# Altium schematic symbol library kmilo17pet-LT_ChargePump.SchLib: 599 symbols (part 17 of 29)
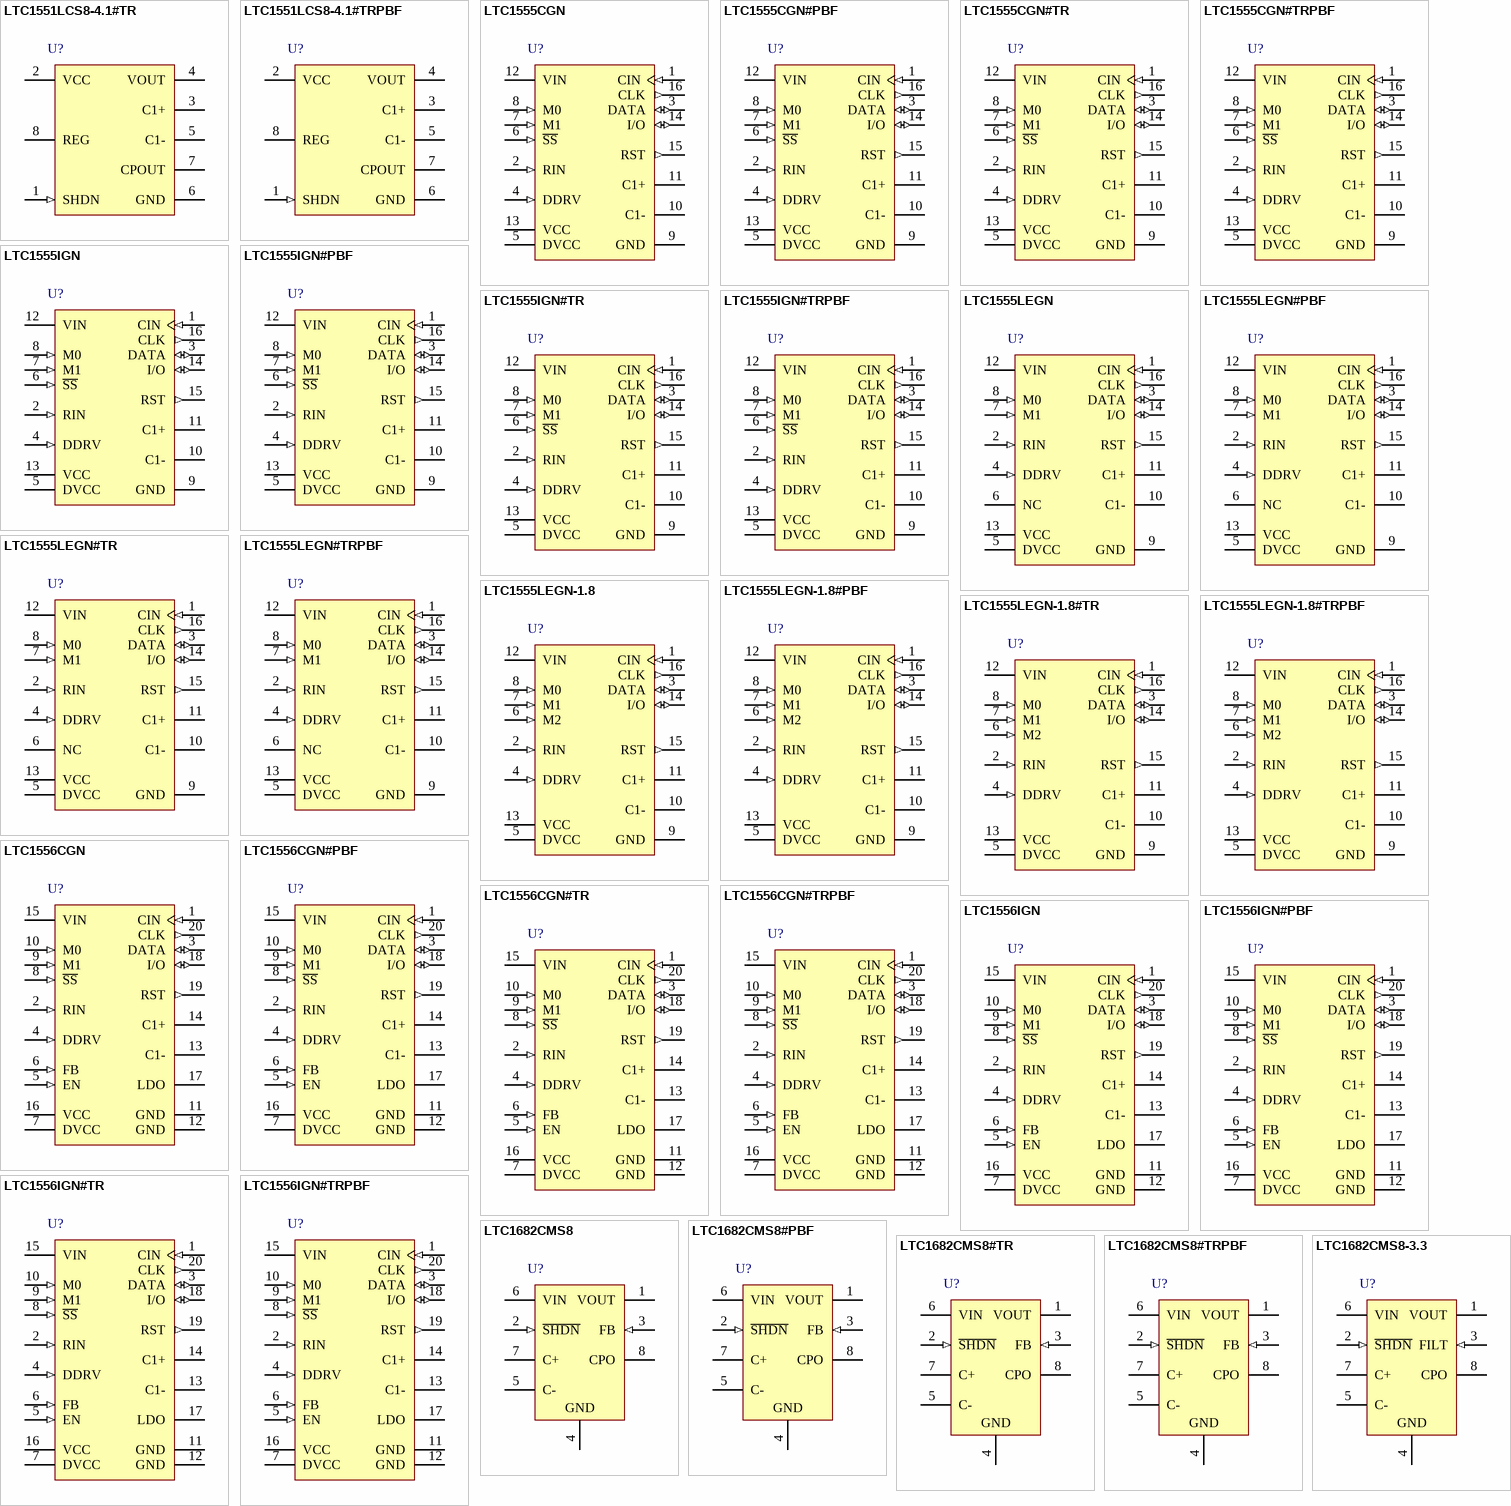
[diagram p32: symbols LTC1551LCS8-4.1#TR to LTC1682CMS8-3.3]

## LTC1556IGN
designator U?
SIM Power Supply and Level Translator, 2.7 to 10 V Vin, 5 V Vout, 20-pin SOP (GN-20), -40 to 85 degC; Manufacturer: Linear Technology; PartNumber: LTC1556IGN; Frequency(kHz): 650; Isupply(mA): 0.06; Max Iout(mA): 20; Vin Max(V): 10; Vin Min(V): 2.7; Voutput: 5V; PackageVersion: Rev. B, 03/2012; PackageReference: GN-20; PackageDescription: 20-Pin Plastic SSOP, Body 8.649 x 3.899 mm, Pitch 0.635 mm; Supplier 1: Digi-Key; Supplier Part Number 1: LTC1556IGN-ND; RoHS: FALSE; Mounting Technology: Surface Mount; ComponentLink1Description: Manufacturer URL; ComponentLink1URL: http://www.linear.com/; ComponentLink2Description: Datasheet; ComponentLink2URL: http://cds.linear.com/docs/en/datasheet/15556f.pdf; ComponentLink3Description: Package Specification; ComponentLink3URL: http://cds.linear.com/docs/en/packaging/05081641_B_GN20.pdf
footprint LT-GN-20_N (SOP, 20-Leads, Body 8.7x4mm, Pitch 0.635mm, IPC Medium Density)
footprint LT-GN-20_L (SOP, 20-Leads, Body 8.7x4mm, Pitch 0.635mm, IPC High Density)
footprint LT-GN-20_M (SOP, 20-Leads, Body 8.7x4mm, Pitch 0.635mm, IPC Low Density)
pins: 1 CIN (in) "Clock Input Pin from Controller.", 2 RIN (in) "Reset Input Pin from Controller.", 3 DATA (io) "Controller Side Data Input/Output Pin. Can be used for single pin bidirectional data transfer between the controller and the SIM card as long as the controller data pin is open drain. The controller output must be able to (See Datasheet)", 4 DDRV (in) "Optional Data Input Pin for Sending Data to the SIM card. When not needed, the DDRV pin should be left floating or tied to DVCC (an internal 1mA current source will pull the DDRV pin up to DVCC if left floating).", 5 EN (in) "Auxiliary LDO/Power Switch Enable Pin. A logic high on this pin from the controller will enable the auxiliary LDO output. When the LDO is disabled, the LDO output will float or be pulled to ground by the load. If left (See Datasheet)", 6 FB (in) "Auxiliary LDO Feedback Pin. When FB is connected to the LDO pin (Pin 17), the LDO output is regulated to 4.3V (typ). If the FB pin is left open or tied to ground, the regulator acts as a =<30W switch between VCC and LDO.", 7 DVCC (power) "Supply Voltage for Controller Side Digital I/O Pins. May be between 1.8V and 5.5V (typically 3V).", 8 ~{SS} (in) "Soft Start Enable Pin. A logic low will enable the charge pump inrush current limiting feature. A logic high will disable the soft start feature and allow VCC to be ramped as quickly as possible upon start-up and coming out (See Datasheet)", 9 M1 (in) "Mode Control Bit 1 (see Truth Table).", 10 M0 (in) "Mode Control Bit 0 (see Truth Table).", 11 GND (power) "Ground for Both the SIM and the Controller. Should be connected to the SIM GND contact as well as to the VIN/Controller GND. Proper grounding and supply bypassing is required to meet 10kV ESD specifications.", 12 GND (power) "Ground for Both the SIM and the Controller. Should be connected to the SIM GND contact as well as to the VIN/Controller GND. Proper grounding and supply bypassing is required to meet 10kV ESD specifications.", 13 C1- "Charge Pump Flying Capacitor Negative Input.", 14 C1+ "Charge Pump Flying Capacitor Positive Input.", 15 VIN (power) "Charge Pump Input Voltage Pin. Input voltage range is 2.7V to 10V. Connect a 10uF low ESR input bypass capacitor close to the VIN pin.", 16 VCC (power) "SIM Card VCC Output. This pin should be connected to the SIM VCC contact. The VCC output voltage is determined by the M0 and M1 pins (see Truth Table). VCC is discharged to GND during shutdown (M0, M1 = 0V). A 10uF low ESR (See Datasheet)", 17 LDO (power) "LDO Output Pin. This pin should be tied to the FB pin for 4.3V LDO operation. The 4.3V LDO output is usable only when VCC is 5V (or greater). It is not available when VCC = 3V. The LDO output may also be used as a =<30W (See Datasheet)", 18 I/O (io) "SIM Side I/O Pin. The pin is an open drain output with a nominal pull-up resistance of 10k and should be connected to the SIM I/O contact. The SIM card must sink up to 1mA max when driving the I/O pin low due to the internal (See Datasheet)", 19 RST (out) "Level Shifted Reset Output Pin. Should be connected to the SIM RST contact.", 20 CLK (out) "Level Shifted Clock Output Pin. Should be connected to the SIM CLK contact. Careful trace routing is recommended due to fast rise and fall edge speeds."

## LTC1556IGN#PBF
designator U?
SIM Power Supply and Level Translator, 2.7 to 10 V Vin, 5 V Vout, 20-pin SOP (GN-20), -40 to 85 degC, Pb-Free; Manufacturer: Linear Technology; PartNumber: LTC1556IGN#PBF; Frequency(kHz): 650; Isupply(mA): 0.06; Max Iout(mA): 20; Vin Max(V): 10; Vin Min(V): 2.7; Voutput: 5V; PackageVersion: Rev. B, 03/2012; PackageReference: GN-20; PackageDescription: 20-Pin Plastic SSOP, Body 8.649 x 3.899 mm, Pitch 0.635 mm; Supplier 1: Digi-Key; Supplier Part Number 1: LTC1556IGN#PBF-ND; RoHS: TRUE; Mounting Technology: Surface Mount; ComponentLink1Description: Manufacturer URL; ComponentLink1URL: http://www.linear.com/; ComponentLink2Description: Datasheet; ComponentLink2URL: http://cds.linear.com/docs/en/datasheet/15556f.pdf; ComponentLink3Description: Package Specification; ComponentLink3URL: http://cds.linear.com/docs/en/packaging/05081641_B_GN20.pdf
footprint LT-GN-20_N (SOP, 20-Leads, Body 8.7x4mm, Pitch 0.635mm, IPC Medium Density)
footprint LT-GN-20_L (SOP, 20-Leads, Body 8.7x4mm, Pitch 0.635mm, IPC High Density)
footprint LT-GN-20_M (SOP, 20-Leads, Body 8.7x4mm, Pitch 0.635mm, IPC Low Density)
pins: 1 CIN (in) "Clock Input Pin from Controller.", 2 RIN (in) "Reset Input Pin from Controller.", 3 DATA (io) "Controller Side Data Input/Output Pin. Can be used for single pin bidirectional data transfer between the controller and the SIM card as long as the controller data pin is open drain. The controller output must be able to (See Datasheet)", 4 DDRV (in) "Optional Data Input Pin for Sending Data to the SIM card. When not needed, the DDRV pin should be left floating or tied to DVCC (an internal 1mA current source will pull the DDRV pin up to DVCC if left floating).", 5 EN (in) "Auxiliary LDO/Power Switch Enable Pin. A logic high on this pin from the controller will enable the auxiliary LDO output. When the LDO is disabled, the LDO output will float or be pulled to ground by the load. If left (See Datasheet)", 6 FB (in) "Auxiliary LDO Feedback Pin. When FB is connected to the LDO pin (Pin 17), the LDO output is regulated to 4.3V (typ). If the FB pin is left open or tied to ground, the regulator acts as a =<30W switch between VCC and LDO.", 7 DVCC (power) "Supply Voltage for Controller Side Digital I/O Pins. May be between 1.8V and 5.5V (typically 3V).", 8 ~{SS} (in) "Soft Start Enable Pin. A logic low will enable the charge pump inrush current limiting feature. A logic high will disable the soft start feature and allow VCC to be ramped as quickly as possible upon start-up and coming out (See Datasheet)", 9 M1 (in) "Mode Control Bit 1 (see Truth Table).", 10 M0 (in) "Mode Control Bit 0 (see Truth Table).", 11 GND (power) "Ground for Both the SIM and the Controller. Should be connected to the SIM GND contact as well as to the VIN/Controller GND. Proper grounding and supply bypassing is required to meet 10kV ESD specifications.", 12 GND (power) "Ground for Both the SIM and the Controller. Should be connected to the SIM GND contact as well as to the VIN/Controller GND. Proper grounding and supply bypassing is required to meet 10kV ESD specifications.", 13 C1- "Charge Pump Flying Capacitor Negative Input.", 14 C1+ "Charge Pump Flying Capacitor Positive Input.", 15 VIN (power) "Charge Pump Input Voltage Pin. Input voltage range is 2.7V to 10V. Connect a 10uF low ESR input bypass capacitor close to the VIN pin.", 16 VCC (power) "SIM Card VCC Output. This pin should be connected to the SIM VCC contact. The VCC output voltage is determined by the M0 and M1 pins (see Truth Table). VCC is discharged to GND during shutdown (M0, M1 = 0V). A 10uF low ESR (See Datasheet)", 17 LDO (power) "LDO Output Pin. This pin should be tied to the FB pin for 4.3V LDO operation. The 4.3V LDO output is usable only when VCC is 5V (or greater). It is not available when VCC = 3V. The LDO output may also be used as a =<30W (See Datasheet)", 18 I/O (io) "SIM Side I/O Pin. The pin is an open drain output with a nominal pull-up resistance of 10k and should be connected to the SIM I/O contact. The SIM card must sink up to 1mA max when driving the I/O pin low due to the internal (See Datasheet)", 19 RST (out) "Level Shifted Reset Output Pin. Should be connected to the SIM RST contact.", 20 CLK (out) "Level Shifted Clock Output Pin. Should be connected to the SIM CLK contact. Careful trace routing is recommended due to fast rise and fall edge speeds."

## LTC1556IGN#TR
designator U?
SIM Power Supply and Level Translator, 2.7 to 10 V Vin, 5 V Vout, 20-pin SOP (GN-20), -40 to 85 degC, Tape and Reel; Manufacturer: Linear Technology; PartNumber: LTC1556IGN#TR; Frequency(kHz): 650; Isupply(mA): 0.06; Max Iout(mA): 20; Vin Max(V): 10; Vin Min(V): 2.7; Voutput: 5V; PackageVersion: Rev. B, 03/2012; PackageReference: GN-20; PackageDescription: 20-Pin Plastic SSOP, Body 8.649 x 3.899 mm, Pitch 0.635 mm; Supplier 1: Digi-Key; Supplier Part Number 1: LTC1556IGN#TR-ND; Packing: Tape and Reel; RoHS: FALSE; Mounting Technology: Surface Mount; ComponentLink1Description: Manufacturer URL; ComponentLink1URL: http://www.linear.com/; ComponentLink2Description: Datasheet; ComponentLink2URL: http://cds.linear.com/docs/en/datasheet/15556f.pdf; ComponentLink3Description: Package Specification; ComponentLink3URL: http://cds.linear.com/docs/en/packaging/05081641_B_GN20.pdf
footprint LT-GN-20_N (SOP, 20-Leads, Body 8.7x4mm, Pitch 0.635mm, IPC Medium Density)
footprint LT-GN-20_L (SOP, 20-Leads, Body 8.7x4mm, Pitch 0.635mm, IPC High Density)
footprint LT-GN-20_M (SOP, 20-Leads, Body 8.7x4mm, Pitch 0.635mm, IPC Low Density)
pins: 1 CIN (in) "Clock Input Pin from Controller.", 2 RIN (in) "Reset Input Pin from Controller.", 3 DATA (io) "Controller Side Data Input/Output Pin. Can be used for single pin bidirectional data transfer between the controller and the SIM card as long as the controller data pin is open drain. The controller output must be able to (See Datasheet)", 4 DDRV (in) "Optional Data Input Pin for Sending Data to the SIM card. When not needed, the DDRV pin should be left floating or tied to DVCC (an internal 1mA current source will pull the DDRV pin up to DVCC if left floating).", 5 EN (in) "Auxiliary LDO/Power Switch Enable Pin. A logic high on this pin from the controller will enable the auxiliary LDO output. When the LDO is disabled, the LDO output will float or be pulled to ground by the load. If left (See Datasheet)", 6 FB (in) "Auxiliary LDO Feedback Pin. When FB is connected to the LDO pin (Pin 17), the LDO output is regulated to 4.3V (typ). If the FB pin is left open or tied to ground, the regulator acts as a =<30W switch between VCC and LDO.", 7 DVCC (power) "Supply Voltage for Controller Side Digital I/O Pins. May be between 1.8V and 5.5V (typically 3V).", 8 ~{SS} (in) "Soft Start Enable Pin. A logic low will enable the charge pump inrush current limiting feature. A logic high will disable the soft start feature and allow VCC to be ramped as quickly as possible upon start-up and coming out (See Datasheet)", 9 M1 (in) "Mode Control Bit 1 (see Truth Table).", 10 M0 (in) "Mode Control Bit 0 (see Truth Table).", 11 GND (power) "Ground for Both the SIM and the Controller. Should be connected to the SIM GND contact as well as to the VIN/Controller GND. Proper grounding and supply bypassing is required to meet 10kV ESD specifications.", 12 GND (power) "Ground for Both the SIM and the Controller. Should be connected to the SIM GND contact as well as to the VIN/Controller GND. Proper grounding and supply bypassing is required to meet 10kV ESD specifications.", 13 C1- "Charge Pump Flying Capacitor Negative Input.", 14 C1+ "Charge Pump Flying Capacitor Positive Input.", 15 VIN (power) "Charge Pump Input Voltage Pin. Input voltage range is 2.7V to 10V. Connect a 10uF low ESR input bypass capacitor close to the VIN pin.", 16 VCC (power) "SIM Card VCC Output. This pin should be connected to the SIM VCC contact. The VCC output voltage is determined by the M0 and M1 pins (see Truth Table). VCC is discharged to GND during shutdown (M0, M1 = 0V). A 10uF low ESR (See Datasheet)", 17 LDO (power) "LDO Output Pin. This pin should be tied to the FB pin for 4.3V LDO operation. The 4.3V LDO output is usable only when VCC is 5V (or greater). It is not available when VCC = 3V. The LDO output may also be used as a =<30W (See Datasheet)", 18 I/O (io) "SIM Side I/O Pin. The pin is an open drain output with a nominal pull-up resistance of 10k and should be connected to the SIM I/O contact. The SIM card must sink up to 1mA max when driving the I/O pin low due to the internal (See Datasheet)", 19 RST (out) "Level Shifted Reset Output Pin. Should be connected to the SIM RST contact.", 20 CLK (out) "Level Shifted Clock Output Pin. Should be connected to the SIM CLK contact. Careful trace routing is recommended due to fast rise and fall edge speeds."

## LTC1556IGN#TRPBF
designator U?
SIM Power Supply and Level Translator, 2.7 to 10 V Vin, 5 V Vout, 20-pin SOP (GN-20), -40 to 85 degC, Pb-Free, Tape and Reel; Manufacturer: Linear Technology; PartNumber: LTC1556IGN#TRPBF; Frequency(kHz): 650; Isupply(mA): 0.06; Max Iout(mA): 20; Vin Max(V): 10; Vin Min(V): 2.7; Voutput: 5V; PackageVersion: Rev. B, 03/2012; PackageReference: GN-20; PackageDescription: 20-Pin Plastic SSOP, Body 8.649 x 3.899 mm, Pitch 0.635 mm; Supplier 1: Digi-Key; Supplier Part Number 1: LTC1556IGN#TRPBF-ND; Packing: Tape and Reel; RoHS: TRUE; Mounting Technology: Surface Mount; ComponentLink1Description: Manufacturer URL; ComponentLink1URL: http://www.linear.com/; ComponentLink2Description: Datasheet; ComponentLink2URL: http://cds.linear.com/docs/en/datasheet/15556f.pdf; ComponentLink3Description: Package Specification; ComponentLink3URL: http://cds.linear.com/docs/en/packaging/05081641_B_GN20.pdf
footprint LT-GN-20_N (SOP, 20-Leads, Body 8.7x4mm, Pitch 0.635mm, IPC Medium Density)
footprint LT-GN-20_L (SOP, 20-Leads, Body 8.7x4mm, Pitch 0.635mm, IPC High Density)
footprint LT-GN-20_M (SOP, 20-Leads, Body 8.7x4mm, Pitch 0.635mm, IPC Low Density)
pins: 1 CIN (in) "Clock Input Pin from Controller.", 2 RIN (in) "Reset Input Pin from Controller.", 3 DATA (io) "Controller Side Data Input/Output Pin. Can be used for single pin bidirectional data transfer between the controller and the SIM card as long as the controller data pin is open drain. The controller output must be able to (See Datasheet)", 4 DDRV (in) "Optional Data Input Pin for Sending Data to the SIM card. When not needed, the DDRV pin should be left floating or tied to DVCC (an internal 1mA current source will pull the DDRV pin up to DVCC if left floating).", 5 EN (in) "Auxiliary LDO/Power Switch Enable Pin. A logic high on this pin from the controller will enable the auxiliary LDO output. When the LDO is disabled, the LDO output will float or be pulled to ground by the load. If left (See Datasheet)", 6 FB (in) "Auxiliary LDO Feedback Pin. When FB is connected to the LDO pin (Pin 17), the LDO output is regulated to 4.3V (typ). If the FB pin is left open or tied to ground, the regulator acts as a =<30W switch between VCC and LDO.", 7 DVCC (power) "Supply Voltage for Controller Side Digital I/O Pins. May be between 1.8V and 5.5V (typically 3V).", 8 ~{SS} (in) "Soft Start Enable Pin. A logic low will enable the charge pump inrush current limiting feature. A logic high will disable the soft start feature and allow VCC to be ramped as quickly as possible upon start-up and coming out (See Datasheet)", 9 M1 (in) "Mode Control Bit 1 (see Truth Table).", 10 M0 (in) "Mode Control Bit 0 (see Truth Table).", 11 GND (power) "Ground for Both the SIM and the Controller. Should be connected to the SIM GND contact as well as to the VIN/Controller GND. Proper grounding and supply bypassing is required to meet 10kV ESD specifications.", 12 GND (power) "Ground for Both the SIM and the Controller. Should be connected to the SIM GND contact as well as to the VIN/Controller GND. Proper grounding and supply bypassing is required to meet 10kV ESD specifications.", 13 C1- "Charge Pump Flying Capacitor Negative Input.", 14 C1+ "Charge Pump Flying Capacitor Positive Input.", 15 VIN (power) "Charge Pump Input Voltage Pin. Input voltage range is 2.7V to 10V. Connect a 10uF low ESR input bypass capacitor close to the VIN pin.", 16 VCC (power) "SIM Card VCC Output. This pin should be connected to the SIM VCC contact. The VCC output voltage is determined by the M0 and M1 pins (see Truth Table). VCC is discharged to GND during shutdown (M0, M1 = 0V). A 10uF low ESR (See Datasheet)", 17 LDO (power) "LDO Output Pin. This pin should be tied to the FB pin for 4.3V LDO operation. The 4.3V LDO output is usable only when VCC is 5V (or greater). It is not available when VCC = 3V. The LDO output may also be used as a =<30W (See Datasheet)", 18 I/O (io) "SIM Side I/O Pin. The pin is an open drain output with a nominal pull-up resistance of 10k and should be connected to the SIM I/O contact. The SIM card must sink up to 1mA max when driving the I/O pin low due to the internal (See Datasheet)", 19 RST (out) "Level Shifted Reset Output Pin. Should be connected to the SIM RST contact.", 20 CLK (out) "Level Shifted Clock Output Pin. Should be connected to the SIM CLK contact. Careful trace routing is recommended due to fast rise and fall edge speeds."

## LTC1682CMS8
designator U?
Doubler Charge Pump with Low Noise Linear Regulator, 1.8 to 4.4 V Vin, Adjustable Vout, 8-pin SOP (MS8-8), 0 to 70 degC; Manufacturer: Linear Technology; PartNumber: LTC1682CMS8; Frequency(kHz): 550; Ishutdown(uA): 1; Isupply(mA): 0.15; Max Iout(mA): 50; Vin Max(V): 4.4; Vin Min(V): 1.8; Voutput: Adj; PackageVersion: Rev. G, 03/2012; PackageReference: MS8-8; PackageDescription: 8-Pin Plastic MSOP, Body 3 x 3 mm, Pitch 0.65 mm; Supplier 1: Digi-Key; Supplier Part Number 1: LTC1682CMS8-ND; RoHS: FALSE; Mounting Technology: Surface Mount; ComponentLink1Description: Manufacturer URL; ComponentLink1URL: http://www.linear.com/; ComponentLink2Description: Datasheet; ComponentLink2URL: http://cds.linear.com/docs/en/datasheet/168235fs.pdf; ComponentLink3Description: Package Specification; ComponentLink3URL: http://cds.linear.com/docs/en/packaging/05081660_G_MS8.pdf
footprint LT-MS8-8_N (SOP, 8-Leads, Body 3.1x3.1mm, Pitch 0.65mm, IPC Medium Density)
footprint LT-MS8-8_L (SOP, 8-Leads, Body 3.1x3.1mm, Pitch 0.65mm, IPC High Density)
footprint LT-MS8-8_M (SOP, 8-Leads, Body 3.1x3.1mm, Pitch 0.65mm, IPC Low Density)
pins: 1 VOUT (power) "Low Noise Regulated Output Voltage. VOUT should be bypassed with a >=2uF low ESR capacitor as close to the pin as possible for best performance. The VOUT range is 2.5V to 5.5V.", 2 ~{SHDN} (in) "Shutdown Input. A logic low on the S\H\D\N\ pin puts the part in shutdown mode. A logic high enables the part. To continuously enable the part connect S\H\D\N\ to VIN. When the part is in shutdown, VOUT will be connected to (See Datasheet)", 3 FB (in) "The voltage on this pin is compared to the internal reference voltage (1.235V) by the error amplifier to keep the output in regulation. An external resistor divider is required between VOUT and FB to adjust the output (See Datasheet)", 4 GND (power) "System Ground.", 5 C- "Flying Capacitor Negative Input.", 6 VIN (power) "Input Voltage, 1.8V to 4.4V. VIN should be bypassed with a >=2uF low ESR capacitor as close to the pin as possible for best performance. A minimum capacitance value of 0.1uF is required.", 7 C+ "Flying Capacitor Positive Input.", 8 CPO (power) "Unregulated Charge Pump Output Voltage. Approximately 1.95(VIN) at low loads. Bypass with a >=2uF low ESR capacitor. If a minimum VOUT enable time is required, the CPO capacitor should be 2xthe VOUT capacitor."

## LTC1682CMS8#PBF
designator U?
Doubler Charge Pump with Low Noise Linear Regulator, 1.8 to 4.4 V Vin, Adjustable Vout, 8-pin SOP (MS8-8), 0 to 70 degC, Pb-Free; Manufacturer: Linear Technology; PartNumber: LTC1682CMS8#PBF; Frequency(kHz): 550; Ishutdown(uA): 1; Isupply(mA): 0.15; Max Iout(mA): 50; Vin Max(V): 4.4; Vin Min(V): 1.8; Voutput: Adj; PackageVersion: Rev. G, 03/2012; PackageReference: MS8-8; PackageDescription: 8-Pin Plastic MSOP, Body 3 x 3 mm, Pitch 0.65 mm; Supplier 1: Digi-Key; Supplier Part Number 1: LTC1682CMS8#PBF-ND; RoHS: TRUE; Mounting Technology: Surface Mount; ComponentLink1Description: Manufacturer URL; ComponentLink1URL: http://www.linear.com/; ComponentLink2Description: Datasheet; ComponentLink2URL: http://cds.linear.com/docs/en/datasheet/168235fs.pdf; ComponentLink3Description: Package Specification; ComponentLink3URL: http://cds.linear.com/docs/en/packaging/05081660_G_MS8.pdf
footprint LT-MS8-8_N (SOP, 8-Leads, Body 3.1x3.1mm, Pitch 0.65mm, IPC Medium Density)
footprint LT-MS8-8_L (SOP, 8-Leads, Body 3.1x3.1mm, Pitch 0.65mm, IPC High Density)
footprint LT-MS8-8_M (SOP, 8-Leads, Body 3.1x3.1mm, Pitch 0.65mm, IPC Low Density)
pins: 1 VOUT (power) "Low Noise Regulated Output Voltage. VOUT should be bypassed with a >=2uF low ESR capacitor as close to the pin as possible for best performance. The VOUT range is 2.5V to 5.5V.", 2 ~{SHDN} (in) "Shutdown Input. A logic low on the S\H\D\N\ pin puts the part in shutdown mode. A logic high enables the part. To continuously enable the part connect S\H\D\N\ to VIN. When the part is in shutdown, VOUT will be connected to (See Datasheet)", 3 FB (in) "The voltage on this pin is compared to the internal reference voltage (1.235V) by the error amplifier to keep the output in regulation. An external resistor divider is required between VOUT and FB to adjust the output (See Datasheet)", 4 GND (power) "System Ground.", 5 C- "Flying Capacitor Negative Input.", 6 VIN (power) "Input Voltage, 1.8V to 4.4V. VIN should be bypassed with a >=2uF low ESR capacitor as close to the pin as possible for best performance. A minimum capacitance value of 0.1uF is required.", 7 C+ "Flying Capacitor Positive Input.", 8 CPO (power) "Unregulated Charge Pump Output Voltage. Approximately 1.95(VIN) at low loads. Bypass with a >=2uF low ESR capacitor. If a minimum VOUT enable time is required, the CPO capacitor should be 2xthe VOUT capacitor."

## LTC1682CMS8#TR
designator U?
Doubler Charge Pump with Low Noise Linear Regulator, 1.8 to 4.4 V Vin, Adjustable Vout, 8-pin SOP (MS8-8), 0 to 70 degC, Tape and Reel; Manufacturer: Linear Technology; PartNumber: LTC1682CMS8#TR; Frequency(kHz): 550; Ishutdown(uA): 1; Isupply(mA): 0.15; Max Iout(mA): 50; Vin Max(V): 4.4; Vin Min(V): 1.8; Voutput: Adj; PackageVersion: Rev. G, 03/2012; PackageReference: MS8-8; PackageDescription: 8-Pin Plastic MSOP, Body 3 x 3 mm, Pitch 0.65 mm; Supplier 1: Digi-Key; Supplier Part Number 1: LTC1682CMS8#TR-ND; Packing: Tape and Reel; RoHS: FALSE; Mounting Technology: Surface Mount; ComponentLink1Description: Manufacturer URL; ComponentLink1URL: http://www.linear.com/; ComponentLink2Description: Datasheet; ComponentLink2URL: http://cds.linear.com/docs/en/datasheet/168235fs.pdf; ComponentLink3Description: Package Specification; ComponentLink3URL: http://cds.linear.com/docs/en/packaging/05081660_G_MS8.pdf
footprint LT-MS8-8_N (SOP, 8-Leads, Body 3.1x3.1mm, Pitch 0.65mm, IPC Medium Density)
footprint LT-MS8-8_L (SOP, 8-Leads, Body 3.1x3.1mm, Pitch 0.65mm, IPC High Density)
footprint LT-MS8-8_M (SOP, 8-Leads, Body 3.1x3.1mm, Pitch 0.65mm, IPC Low Density)
pins: 1 VOUT (power) "Low Noise Regulated Output Voltage. VOUT should be bypassed with a >=2uF low ESR capacitor as close to the pin as possible for best performance. The VOUT range is 2.5V to 5.5V.", 2 ~{SHDN} (in) "Shutdown Input. A logic low on the S\H\D\N\ pin puts the part in shutdown mode. A logic high enables the part. To continuously enable the part connect S\H\D\N\ to VIN. When the part is in shutdown, VOUT will be connected to (See Datasheet)", 3 FB (in) "The voltage on this pin is compared to the internal reference voltage (1.235V) by the error amplifier to keep the output in regulation. An external resistor divider is required between VOUT and FB to adjust the output (See Datasheet)", 4 GND (power) "System Ground.", 5 C- "Flying Capacitor Negative Input.", 6 VIN (power) "Input Voltage, 1.8V to 4.4V. VIN should be bypassed with a >=2uF low ESR capacitor as close to the pin as possible for best performance. A minimum capacitance value of 0.1uF is required.", 7 C+ "Flying Capacitor Positive Input.", 8 CPO (power) "Unregulated Charge Pump Output Voltage. Approximately 1.95(VIN) at low loads. Bypass with a >=2uF low ESR capacitor. If a minimum VOUT enable time is required, the CPO capacitor should be 2xthe VOUT capacitor."

## LTC1682CMS8#TRPBF
designator U?
Doubler Charge Pump with Low Noise Linear Regulator, 1.8 to 4.4 V Vin, Adjustable Vout, 8-pin SOP (MS8-8), 0 to 70 degC, Pb-Free, Tape and Reel; Manufacturer: Linear Technology; PartNumber: LTC1682CMS8#TRPBF; Frequency(kHz): 550; Ishutdown(uA): 1; Isupply(mA): 0.15; Max Iout(mA): 50; Vin Max(V): 4.4; Vin Min(V): 1.8; Voutput: Adj; PackageVersion: Rev. G, 03/2012; PackageReference: MS8-8; PackageDescription: 8-Pin Plastic MSOP, Body 3 x 3 mm, Pitch 0.65 mm; Supplier 1: Digi-Key; Supplier Part Number 1: LTC1682CMS8#TRPBF-ND; Packing: Tape and Reel; RoHS: TRUE; Mounting Technology: Surface Mount; ComponentLink1Description: Manufacturer URL; ComponentLink1URL: http://www.linear.com/; ComponentLink2Description: Datasheet; ComponentLink2URL: http://cds.linear.com/docs/en/datasheet/168235fs.pdf; ComponentLink3Description: Package Specification; ComponentLink3URL: http://cds.linear.com/docs/en/packaging/05081660_G_MS8.pdf
footprint LT-MS8-8_N (SOP, 8-Leads, Body 3.1x3.1mm, Pitch 0.65mm, IPC Medium Density)
footprint LT-MS8-8_L (SOP, 8-Leads, Body 3.1x3.1mm, Pitch 0.65mm, IPC High Density)
footprint LT-MS8-8_M (SOP, 8-Leads, Body 3.1x3.1mm, Pitch 0.65mm, IPC Low Density)
pins: 1 VOUT (power) "Low Noise Regulated Output Voltage. VOUT should be bypassed with a >=2uF low ESR capacitor as close to the pin as possible for best performance. The VOUT range is 2.5V to 5.5V.", 2 ~{SHDN} (in) "Shutdown Input. A logic low on the S\H\D\N\ pin puts the part in shutdown mode. A logic high enables the part. To continuously enable the part connect S\H\D\N\ to VIN. When the part is in shutdown, VOUT will be connected to (See Datasheet)", 3 FB (in) "The voltage on this pin is compared to the internal reference voltage (1.235V) by the error amplifier to keep the output in regulation. An external resistor divider is required between VOUT and FB to adjust the output (See Datasheet)", 4 GND (power) "System Ground.", 5 C- "Flying Capacitor Negative Input.", 6 VIN (power) "Input Voltage, 1.8V to 4.4V. VIN should be bypassed with a >=2uF low ESR capacitor as close to the pin as possible for best performance. A minimum capacitance value of 0.1uF is required.", 7 C+ "Flying Capacitor Positive Input.", 8 CPO (power) "Unregulated Charge Pump Output Voltage. Approximately 1.95(VIN) at low loads. Bypass with a >=2uF low ESR capacitor. If a minimum VOUT enable time is required, the CPO capacitor should be 2xthe VOUT capacitor."

## LTC1682CMS8-3.3
designator U?
Doubler Charge Pump with Low Noise Linear Regulator, 2 to 4.4 V Vin, 3.3 V Vout, 8-pin SOP (MS8-8), 0 to 70 degC; Manufacturer: Linear Technology; PartNumber: LTC1682CMS8-3.3; Frequency(kHz): 550; Ishutdown(uA): 1; Isupply(mA): 0.15; Max Iout(mA): 50; Vin Max(V): 4.4; Vin Min(V): 2; Voutput: 3.3V; PackageVersion: Rev. G, 03/2012; PackageReference: MS8-8; PackageDescription: 8-Pin Plastic MSOP, Body 3 x 3 mm, Pitch 0.65 mm; Supplier 1: Digi-Key; Supplier Part Number 1: LTC1682CMS8-3.3-ND; RoHS: FALSE; Mounting Technology: Surface Mount; ComponentLink1Description: Manufacturer URL; ComponentLink1URL: http://www.linear.com/; ComponentLink2Description: Datasheet; ComponentLink2URL: http://cds.linear.com/docs/en/datasheet/168235fs.pdf; ComponentLink3Description: Package Specification; ComponentLink3URL: http://cds.linear.com/docs/en/packaging/05081660_G_MS8.pdf
footprint LT-MS8-8_N (SOP, 8-Leads, Body 3.1x3.1mm, Pitch 0.65mm, IPC Medium Density)
footprint LT-MS8-8_L (SOP, 8-Leads, Body 3.1x3.1mm, Pitch 0.65mm, IPC High Density)
footprint LT-MS8-8_M (SOP, 8-Leads, Body 3.1x3.1mm, Pitch 0.65mm, IPC Low Density)
pins: 1 VOUT (power) "Low Noise Regulated Output Voltage. VOUT should be bypassed with a >=2uF low ESR capacitor as close to the pin as possible for best performance. The VOUT range is 2.5V to 5.5V.", 2 ~{SHDN} (in) "Shutdown Input. A logic low on the S\H\D\N\ pin puts the part in shutdown mode. A logic high enables the part. To continuously enable the part connect S\H\D\N\ to VIN. When the part is in shutdown, VOUT will be connected to (See Datasheet)", 3 FILT (in) "This pin is used to filter the internal voltage reference. Typically a 1nF capacitor is connected from FILT to ground.", 4 GND (power) "System Ground.", 5 C- "Flying Capacitor Negative Input.", 6 VIN (power) "Input Voltage, 1.8V to 4.4V. VIN should be bypassed with a >=2uF low ESR capacitor as close to the pin as possible for best performance. A minimum capacitance value of 0.1uF is required.", 7 C+ "Flying Capacitor Positive Input.", 8 CPO (power) "Unregulated Charge Pump Output Voltage. Approximately 1.95(VIN) at low loads. Bypass with a >=2uF low ESR capacitor. If a minimum VOUT enable time is required, the CPO capacitor should be 2xthe VOUT capacitor."

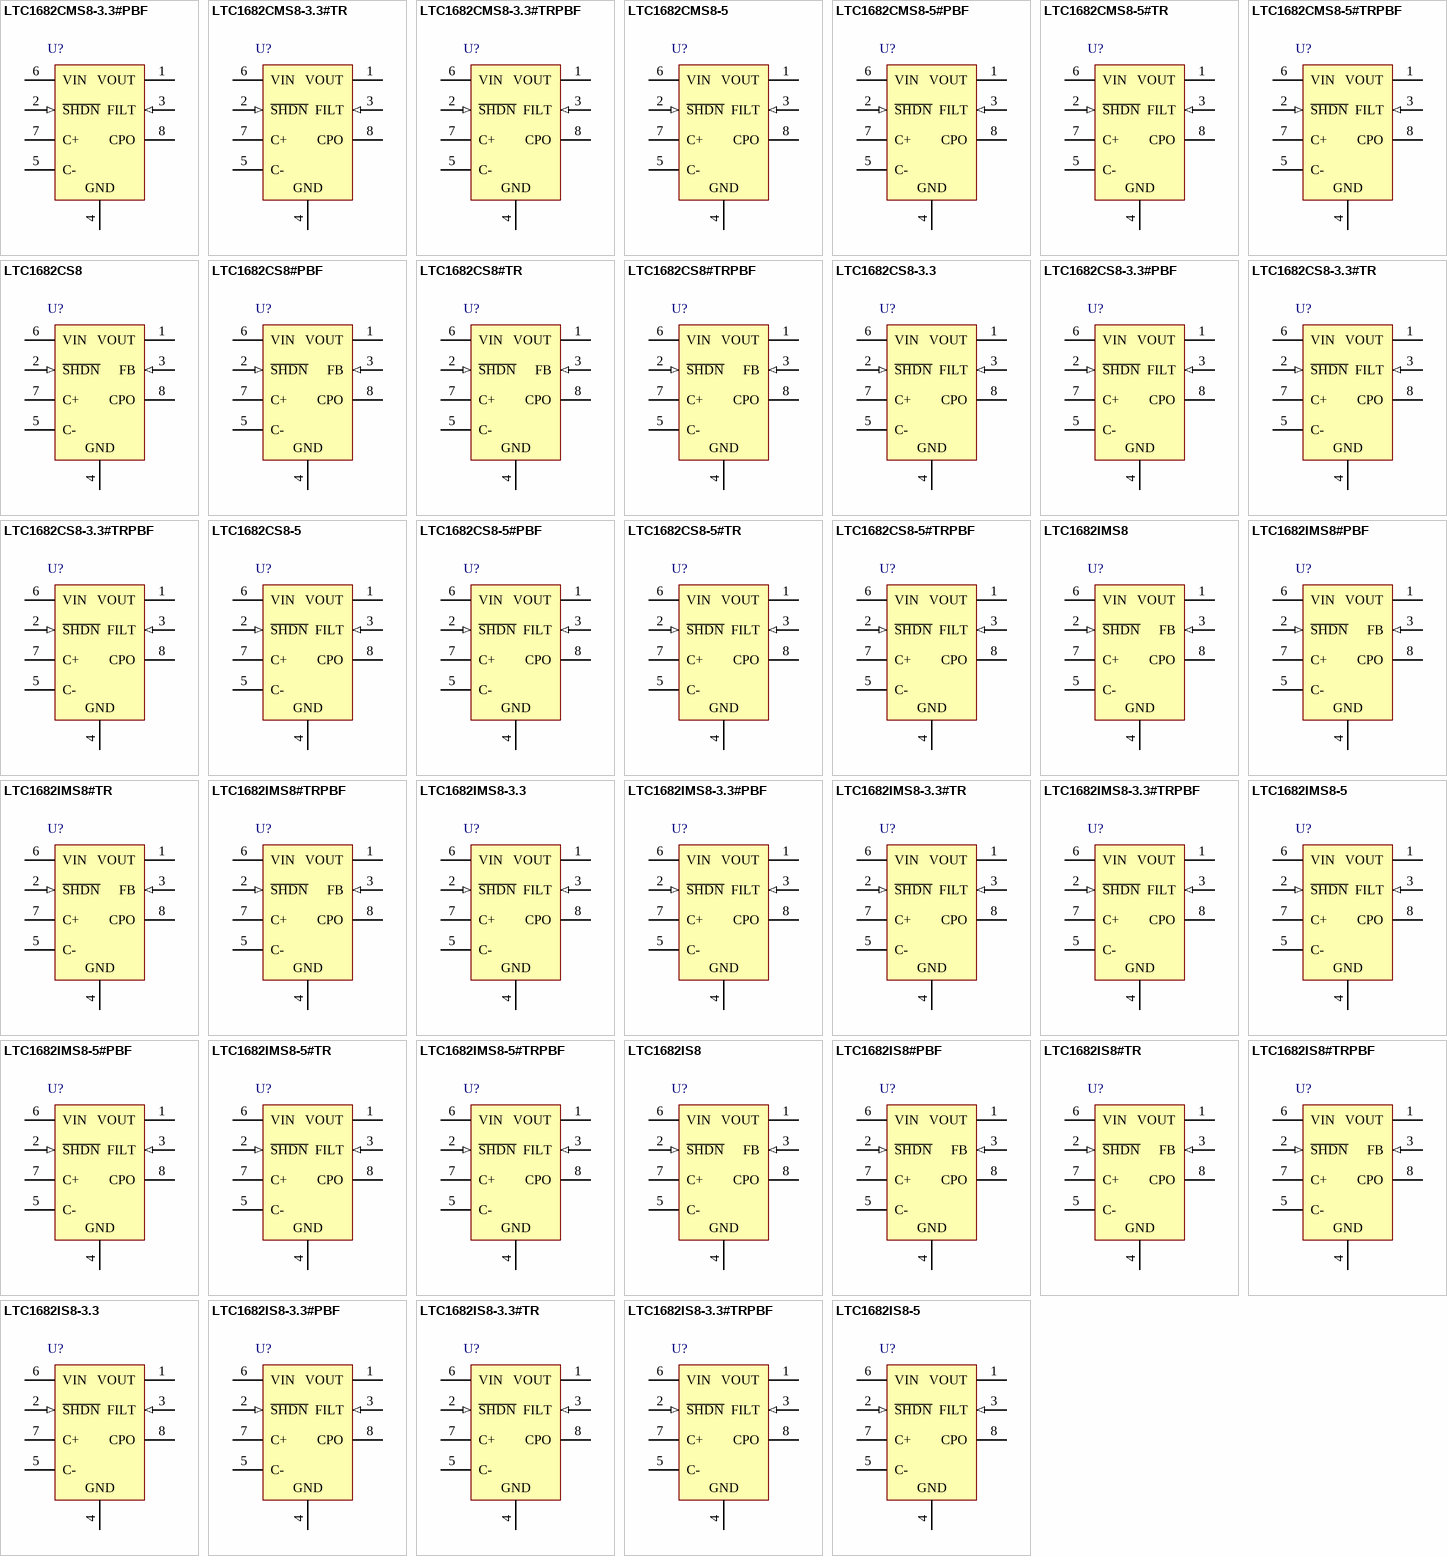
[diagram p10: symbols LTC1682CMS8-3.3#PBF to LTC1682IS8-5]

## LTC1682CMS8-3.3#PBF
designator U?
Doubler Charge Pump with Low Noise Linear Regulator, 2 to 4.4 V Vin, 3.3 V Vout, 8-pin SOP (MS8-8), 0 to 70 degC, Pb-Free; Manufacturer: Linear Technology; PartNumber: LTC1682CMS8-3.3#PBF; Frequency(kHz): 550; Ishutdown(uA): 1; Isupply(mA): 0.15; Max Iout(mA): 50; Vin Max(V): 4.4; Vin Min(V): 2; Voutput: 3.3V; PackageVersion: Rev. G, 03/2012; PackageReference: MS8-8; PackageDescription: 8-Pin Plastic MSOP, Body 3 x 3 mm, Pitch 0.65 mm; Supplier 1: Digi-Key; Supplier Part Number 1: LTC1682CMS8-3.3#PBF-ND; RoHS: TRUE; Mounting Technology: Surface Mount; ComponentLink1Description: Manufacturer URL; ComponentLink1URL: http://www.linear.com/; ComponentLink2Description: Datasheet; ComponentLink2URL: http://cds.linear.com/docs/en/datasheet/168235fs.pdf; ComponentLink3Description: Package Specification; ComponentLink3URL: http://cds.linear.com/docs/en/packaging/05081660_G_MS8.pdf
footprint LT-MS8-8_N (SOP, 8-Leads, Body 3.1x3.1mm, Pitch 0.65mm, IPC Medium Density)
footprint LT-MS8-8_L (SOP, 8-Leads, Body 3.1x3.1mm, Pitch 0.65mm, IPC High Density)
footprint LT-MS8-8_M (SOP, 8-Leads, Body 3.1x3.1mm, Pitch 0.65mm, IPC Low Density)
pins: 1 VOUT (power) "Low Noise Regulated Output Voltage. VOUT should be bypassed with a >=2uF low ESR capacitor as close to the pin as possible for best performance. The VOUT range is 2.5V to 5.5V.", 2 ~{SHDN} (in) "Shutdown Input. A logic low on the S\H\D\N\ pin puts the part in shutdown mode. A logic high enables the part. To continuously enable the part connect S\H\D\N\ to VIN. When the part is in shutdown, VOUT will be connected to (See Datasheet)", 3 FILT (in) "This pin is used to filter the internal voltage reference. Typically a 1nF capacitor is connected from FILT to ground.", 4 GND (power) "System Ground.", 5 C- "Flying Capacitor Negative Input.", 6 VIN (power) "Input Voltage, 1.8V to 4.4V. VIN should be bypassed with a >=2uF low ESR capacitor as close to the pin as possible for best performance. A minimum capacitance value of 0.1uF is required.", 7 C+ "Flying Capacitor Positive Input.", 8 CPO (power) "Unregulated Charge Pump Output Voltage. Approximately 1.95(VIN) at low loads. Bypass with a >=2uF low ESR capacitor. If a minimum VOUT enable time is required, the CPO capacitor should be 2xthe VOUT capacitor."

## LTC1682CMS8-3.3#TR
designator U?
Doubler Charge Pump with Low Noise Linear Regulator, 2 to 4.4 V Vin, 3.3 V Vout, 8-pin SOP (MS8-8), 0 to 70 degC, Tape and Reel; Manufacturer: Linear Technology; PartNumber: LTC1682CMS8-3.3#TR; Frequency(kHz): 550; Ishutdown(uA): 1; Isupply(mA): 0.15; Max Iout(mA): 50; Vin Max(V): 4.4; Vin Min(V): 2; Voutput: 3.3V; PackageVersion: Rev. G, 03/2012; PackageReference: MS8-8; PackageDescription: 8-Pin Plastic MSOP, Body 3 x 3 mm, Pitch 0.65 mm; Supplier 1: Digi-Key; Supplier Part Number 1: LTC1682CMS8-3.3TR-ND; Packing: Tape and Reel; RoHS: FALSE; Mounting Technology: Surface Mount; ComponentLink1Description: Manufacturer URL; ComponentLink1URL: http://www.linear.com/; ComponentLink2Description: Datasheet; ComponentLink2URL: http://cds.linear.com/docs/en/datasheet/168235fs.pdf; ComponentLink3Description: Package Specification; ComponentLink3URL: http://cds.linear.com/docs/en/packaging/05081660_G_MS8.pdf
footprint LT-MS8-8_N (SOP, 8-Leads, Body 3.1x3.1mm, Pitch 0.65mm, IPC Medium Density)
footprint LT-MS8-8_L (SOP, 8-Leads, Body 3.1x3.1mm, Pitch 0.65mm, IPC High Density)
footprint LT-MS8-8_M (SOP, 8-Leads, Body 3.1x3.1mm, Pitch 0.65mm, IPC Low Density)
pins: 1 VOUT (power) "Low Noise Regulated Output Voltage. VOUT should be bypassed with a >=2uF low ESR capacitor as close to the pin as possible for best performance. The VOUT range is 2.5V to 5.5V.", 2 ~{SHDN} (in) "Shutdown Input. A logic low on the S\H\D\N\ pin puts the part in shutdown mode. A logic high enables the part. To continuously enable the part connect S\H\D\N\ to VIN. When the part is in shutdown, VOUT will be connected to (See Datasheet)", 3 FILT (in) "This pin is used to filter the internal voltage reference. Typically a 1nF capacitor is connected from FILT to ground.", 4 GND (power) "System Ground.", 5 C- "Flying Capacitor Negative Input.", 6 VIN (power) "Input Voltage, 1.8V to 4.4V. VIN should be bypassed with a >=2uF low ESR capacitor as close to the pin as possible for best performance. A minimum capacitance value of 0.1uF is required.", 7 C+ "Flying Capacitor Positive Input.", 8 CPO (power) "Unregulated Charge Pump Output Voltage. Approximately 1.95(VIN) at low loads. Bypass with a >=2uF low ESR capacitor. If a minimum VOUT enable time is required, the CPO capacitor should be 2xthe VOUT capacitor."

## LTC1682CMS8-3.3#TRPBF
designator U?
Doubler Charge Pump with Low Noise Linear Regulator, 2 to 4.4 V Vin, 3.3 V Vout, 8-pin SOP (MS8-8), 0 to 70 degC, Pb-Free, Tape and Reel; Manufacturer: Linear Technology; PartNumber: LTC1682CMS8-3.3#TRPBF; Frequency(kHz): 550; Ishutdown(uA): 1; Isupply(mA): 0.15; Max Iout(mA): 50; Vin Max(V): 4.4; Vin Min(V): 2; Voutput: 3.3V; PackageVersion: Rev. G, 03/2012; PackageReference: MS8-8; PackageDescription: 8-Pin Plastic MSOP, Body 3 x 3 mm, Pitch 0.65 mm; Supplier 1: Digi-Key; Supplier Part Number 1: LTC1682CMS8-3.3#TRPBF-ND; Packing: Tape and Reel; RoHS: TRUE; Mounting Technology: Surface Mount; ComponentLink1Description: Manufacturer URL; ComponentLink1URL: http://www.linear.com/; ComponentLink2Description: Datasheet; ComponentLink2URL: http://cds.linear.com/docs/en/datasheet/168235fs.pdf; ComponentLink3Description: Package Specification; ComponentLink3URL: http://cds.linear.com/docs/en/packaging/05081660_G_MS8.pdf
footprint LT-MS8-8_N (SOP, 8-Leads, Body 3.1x3.1mm, Pitch 0.65mm, IPC Medium Density)
footprint LT-MS8-8_L (SOP, 8-Leads, Body 3.1x3.1mm, Pitch 0.65mm, IPC High Density)
footprint LT-MS8-8_M (SOP, 8-Leads, Body 3.1x3.1mm, Pitch 0.65mm, IPC Low Density)
pins: 1 VOUT (power) "Low Noise Regulated Output Voltage. VOUT should be bypassed with a >=2uF low ESR capacitor as close to the pin as possible for best performance. The VOUT range is 2.5V to 5.5V.", 2 ~{SHDN} (in) "Shutdown Input. A logic low on the S\H\D\N\ pin puts the part in shutdown mode. A logic high enables the part. To continuously enable the part connect S\H\D\N\ to VIN. When the part is in shutdown, VOUT will be connected to (See Datasheet)", 3 FILT (in) "This pin is used to filter the internal voltage reference. Typically a 1nF capacitor is connected from FILT to ground.", 4 GND (power) "System Ground.", 5 C- "Flying Capacitor Negative Input.", 6 VIN (power) "Input Voltage, 1.8V to 4.4V. VIN should be bypassed with a >=2uF low ESR capacitor as close to the pin as possible for best performance. A minimum capacitance value of 0.1uF is required.", 7 C+ "Flying Capacitor Positive Input.", 8 CPO (power) "Unregulated Charge Pump Output Voltage. Approximately 1.95(VIN) at low loads. Bypass with a >=2uF low ESR capacitor. If a minimum VOUT enable time is required, the CPO capacitor should be 2xthe VOUT capacitor."

## LTC1682CMS8-5
designator U?
Doubler Charge Pump with Low Noise Linear Regulator, 2.7 to 4.4 V Vin, 5 V Vout, 8-pin SOP (MS8-8), 0 to 70 degC; Manufacturer: Linear Technology; PartNumber: LTC1682CMS8-5; Frequency(kHz): 550; Ishutdown(uA): 1; Isupply(mA): 0.15; Max Iout(mA): 50; Vin Max(V): 4.4; Vin Min(V): 2.7; Voutput: 5V; PackageVersion: Rev. G, 03/2012; PackageReference: MS8-8; PackageDescription: 8-Pin Plastic MSOP, Body 3 x 3 mm, Pitch 0.65 mm; Supplier 1: Digi-Key; Supplier Part Number 1: LTC1682CMS8-5-ND; RoHS: FALSE; Mounting Technology: Surface Mount; ComponentLink1Description: Manufacturer URL; ComponentLink1URL: http://www.linear.com/; ComponentLink2Description: Datasheet; ComponentLink2URL: http://cds.linear.com/docs/en/datasheet/168235fs.pdf; ComponentLink3Description: Package Specification; ComponentLink3URL: http://cds.linear.com/docs/en/packaging/05081660_G_MS8.pdf
footprint LT-MS8-8_N (SOP, 8-Leads, Body 3.1x3.1mm, Pitch 0.65mm, IPC Medium Density)
footprint LT-MS8-8_L (SOP, 8-Leads, Body 3.1x3.1mm, Pitch 0.65mm, IPC High Density)
footprint LT-MS8-8_M (SOP, 8-Leads, Body 3.1x3.1mm, Pitch 0.65mm, IPC Low Density)
pins: 1 VOUT (power) "Low Noise Regulated Output Voltage. VOUT should be bypassed with a >=2uF low ESR capacitor as close to the pin as possible for best performance. The VOUT range is 2.5V to 5.5V.", 2 ~{SHDN} (in) "Shutdown Input. A logic low on the S\H\D\N\ pin puts the part in shutdown mode. A logic high enables the part. To continuously enable the part connect S\H\D\N\ to VIN. When the part is in shutdown, VOUT will be connected to (See Datasheet)", 3 FILT (in) "This pin is used to filter the internal voltage reference. Typically a 1nF capacitor is connected from FILT to ground.", 4 GND (power) "System Ground.", 5 C- "Flying Capacitor Negative Input.", 6 VIN (power) "Input Voltage, 1.8V to 4.4V. VIN should be bypassed with a >=2uF low ESR capacitor as close to the pin as possible for best performance. A minimum capacitance value of 0.1uF is required.", 7 C+ "Flying Capacitor Positive Input.", 8 CPO (power) "Unregulated Charge Pump Output Voltage. Approximately 1.95(VIN) at low loads. Bypass with a >=2uF low ESR capacitor. If a minimum VOUT enable time is required, the CPO capacitor should be 2xthe VOUT capacitor."

## LTC1682CMS8-5#PBF
designator U?
Doubler Charge Pump with Low Noise Linear Regulator, 2.7 to 4.4 V Vin, 5 V Vout, 8-pin SOP (MS8-8), 0 to 70 degC, Pb-Free; Manufacturer: Linear Technology; PartNumber: LTC1682CMS8-5#PBF; Frequency(kHz): 550; Ishutdown(uA): 1; Isupply(mA): 0.15; Max Iout(mA): 50; Vin Max(V): 4.4; Vin Min(V): 2.7; Voutput: 5V; PackageVersion: Rev. G, 03/2012; PackageReference: MS8-8; PackageDescription: 8-Pin Plastic MSOP, Body 3 x 3 mm, Pitch 0.65 mm; Supplier 1: Digi-Key; Supplier Part Number 1: LTC1682CMS8-5#PBF-ND; Supplier 2: Newark; Supplier Part Number 2: 56M3132; RoHS: TRUE; Mounting Technology: Surface Mount; ComponentLink1Description: Manufacturer URL; ComponentLink1URL: http://www.linear.com/; ComponentLink2Description: Datasheet; ComponentLink2URL: http://cds.linear.com/docs/en/datasheet/168235fs.pdf; ComponentLink3Description: Package Specification; ComponentLink3URL: http://cds.linear.com/docs/en/packaging/05081660_G_MS8.pdf
footprint LT-MS8-8_N (SOP, 8-Leads, Body 3.1x3.1mm, Pitch 0.65mm, IPC Medium Density)
footprint LT-MS8-8_L (SOP, 8-Leads, Body 3.1x3.1mm, Pitch 0.65mm, IPC High Density)
footprint LT-MS8-8_M (SOP, 8-Leads, Body 3.1x3.1mm, Pitch 0.65mm, IPC Low Density)
pins: 1 VOUT (power) "Low Noise Regulated Output Voltage. VOUT should be bypassed with a >=2uF low ESR capacitor as close to the pin as possible for best performance. The VOUT range is 2.5V to 5.5V.", 2 ~{SHDN} (in) "Shutdown Input. A logic low on the S\H\D\N\ pin puts the part in shutdown mode. A logic high enables the part. To continuously enable the part connect S\H\D\N\ to VIN. When the part is in shutdown, VOUT will be connected to (See Datasheet)", 3 FILT (in) "This pin is used to filter the internal voltage reference. Typically a 1nF capacitor is connected from FILT to ground.", 4 GND (power) "System Ground.", 5 C- "Flying Capacitor Negative Input.", 6 VIN (power) "Input Voltage, 1.8V to 4.4V. VIN should be bypassed with a >=2uF low ESR capacitor as close to the pin as possible for best performance. A minimum capacitance value of 0.1uF is required.", 7 C+ "Flying Capacitor Positive Input.", 8 CPO (power) "Unregulated Charge Pump Output Voltage. Approximately 1.95(VIN) at low loads. Bypass with a >=2uF low ESR capacitor. If a minimum VOUT enable time is required, the CPO capacitor should be 2xthe VOUT capacitor."

## LTC1682CMS8-5#TR
designator U?
Doubler Charge Pump with Low Noise Linear Regulator, 2.7 to 4.4 V Vin, 5 V Vout, 8-pin SOP (MS8-8), 0 to 70 degC, Tape and Reel; Manufacturer: Linear Technology; PartNumber: LTC1682CMS8-5#TR; Frequency(kHz): 550; Ishutdown(uA): 1; Isupply(mA): 0.15; Max Iout(mA): 50; Vin Max(V): 4.4; Vin Min(V): 2.7; Voutput: 5V; PackageVersion: Rev. G, 03/2012; PackageReference: MS8-8; PackageDescription: 8-Pin Plastic MSOP, Body 3 x 3 mm, Pitch 0.65 mm; Supplier 1: Digi-Key; Supplier Part Number 1: LTC1682CMS8-5#TR-ND; Packing: Tape and Reel; RoHS: FALSE; Mounting Technology: Surface Mount; ComponentLink1Description: Manufacturer URL; ComponentLink1URL: http://www.linear.com/; ComponentLink2Description: Datasheet; ComponentLink2URL: http://cds.linear.com/docs/en/datasheet/168235fs.pdf; ComponentLink3Description: Package Specification; ComponentLink3URL: http://cds.linear.com/docs/en/packaging/05081660_G_MS8.pdf
footprint LT-MS8-8_N (SOP, 8-Leads, Body 3.1x3.1mm, Pitch 0.65mm, IPC Medium Density)
footprint LT-MS8-8_L (SOP, 8-Leads, Body 3.1x3.1mm, Pitch 0.65mm, IPC High Density)
footprint LT-MS8-8_M (SOP, 8-Leads, Body 3.1x3.1mm, Pitch 0.65mm, IPC Low Density)
pins: 1 VOUT (power) "Low Noise Regulated Output Voltage. VOUT should be bypassed with a >=2uF low ESR capacitor as close to the pin as possible for best performance. The VOUT range is 2.5V to 5.5V.", 2 ~{SHDN} (in) "Shutdown Input. A logic low on the S\H\D\N\ pin puts the part in shutdown mode. A logic high enables the part. To continuously enable the part connect S\H\D\N\ to VIN. When the part is in shutdown, VOUT will be connected to (See Datasheet)", 3 FILT (in) "This pin is used to filter the internal voltage reference. Typically a 1nF capacitor is connected from FILT to ground.", 4 GND (power) "System Ground.", 5 C- "Flying Capacitor Negative Input.", 6 VIN (power) "Input Voltage, 1.8V to 4.4V. VIN should be bypassed with a >=2uF low ESR capacitor as close to the pin as possible for best performance. A minimum capacitance value of 0.1uF is required.", 7 C+ "Flying Capacitor Positive Input.", 8 CPO (power) "Unregulated Charge Pump Output Voltage. Approximately 1.95(VIN) at low loads. Bypass with a >=2uF low ESR capacitor. If a minimum VOUT enable time is required, the CPO capacitor should be 2xthe VOUT capacitor."

## LTC1682CMS8-5#TRPBF
designator U?
Doubler Charge Pump with Low Noise Linear Regulator, 2.7 to 4.4 V Vin, 5 V Vout, 8-pin SOP (MS8-8), 0 to 70 degC, Pb-Free, Tape and Reel; Manufacturer: Linear Technology; PartNumber: LTC1682CMS8-5#TRPBF; Frequency(kHz): 550; Ishutdown(uA): 1; Isupply(mA): 0.15; Max Iout(mA): 50; Vin Max(V): 4.4; Vin Min(V): 2.7; Voutput: 5V; PackageVersion: Rev. G, 03/2012; PackageReference: MS8-8; PackageDescription: 8-Pin Plastic MSOP, Body 3 x 3 mm, Pitch 0.65 mm; Supplier 1: Digi-Key; Supplier Part Number 1: LTC1682CMS8-5#TRPBF-ND; Packing: Tape and Reel; RoHS: TRUE; Mounting Technology: Surface Mount; ComponentLink1Description: Manufacturer URL; ComponentLink1URL: http://www.linear.com/; ComponentLink2Description: Datasheet; ComponentLink2URL: http://cds.linear.com/docs/en/datasheet/168235fs.pdf; ComponentLink3Description: Package Specification; ComponentLink3URL: http://cds.linear.com/docs/en/packaging/05081660_G_MS8.pdf
footprint LT-MS8-8_N (SOP, 8-Leads, Body 3.1x3.1mm, Pitch 0.65mm, IPC Medium Density)
footprint LT-MS8-8_L (SOP, 8-Leads, Body 3.1x3.1mm, Pitch 0.65mm, IPC High Density)
footprint LT-MS8-8_M (SOP, 8-Leads, Body 3.1x3.1mm, Pitch 0.65mm, IPC Low Density)
pins: 1 VOUT (power) "Low Noise Regulated Output Voltage. VOUT should be bypassed with a >=2uF low ESR capacitor as close to the pin as possible for best performance. The VOUT range is 2.5V to 5.5V.", 2 ~{SHDN} (in) "Shutdown Input. A logic low on the S\H\D\N\ pin puts the part in shutdown mode. A logic high enables the part. To continuously enable the part connect S\H\D\N\ to VIN. When the part is in shutdown, VOUT will be connected to (See Datasheet)", 3 FILT (in) "This pin is used to filter the internal voltage reference. Typically a 1nF capacitor is connected from FILT to ground.", 4 GND (power) "System Ground.", 5 C- "Flying Capacitor Negative Input.", 6 VIN (power) "Input Voltage, 1.8V to 4.4V. VIN should be bypassed with a >=2uF low ESR capacitor as close to the pin as possible for best performance. A minimum capacitance value of 0.1uF is required.", 7 C+ "Flying Capacitor Positive Input.", 8 CPO (power) "Unregulated Charge Pump Output Voltage. Approximately 1.95(VIN) at low loads. Bypass with a >=2uF low ESR capacitor. If a minimum VOUT enable time is required, the CPO capacitor should be 2xthe VOUT capacitor."

## LTC1682CS8
designator U?
Doubler Charge Pump with Low Noise Linear Regulator, 1.8 to 4.4 V Vin, Adjustable Vout, 8-pin SOIC (S8-8), 0 to 70 degC; Manufacturer: Linear Technology; PartNumber: LTC1682CS8; Frequency(kHz): 550; Ishutdown(uA): 1; Isupply(mA): 0.15; Max Iout(mA): 50; Vin Max(V): 4.4; Vin Min(V): 1.8; Voutput: Adj; PackageVersion: Rev. G, 03/2012; PackageReference: S8-8; PackageDescription: 8-Pin Plastic Small Outline (Narrow .150 Inch), Body 4.9 x 3.9 mm, Pitch 1.27 mm; Supplier 1: Digi-Key; Supplier Part Number 1: LTC1682CS8-ND; Supplier 2: Newark; Supplier Part Number 2: 56M3138; RoHS: FALSE; Mounting Technology: Surface Mount; ComponentLink1Description: Manufacturer URL; ComponentLink1URL: http://www.linear.com/; ComponentLink2Description: Datasheet; ComponentLink2URL: http://cds.linear.com/docs/en/datasheet/168235fs.pdf; ComponentLink3Description: Package Specification; ComponentLink3URL: http://cds.linear.com/docs/en/packaging/05081610_G_SO8.pdf
footprint LT-S8-8_N (SOIC, 8-Leads, Body 5x4mm, Pitch 1.27mm, IPC Medium Density)
footprint LT-S8-8_L (SOIC, 8-Leads, Body 5x4mm, Pitch 1.27mm, IPC High Density)
footprint LT-S8-8_M (SOIC, 8-Leads, Body 5x4mm, Pitch 1.27mm, IPC Low Density)
pins: 1 VOUT (power) "Low Noise Regulated Output Voltage. VOUT should be bypassed with a >=2uF low ESR capacitor as close to the pin as possible for best performance. The VOUT range is 2.5V to 5.5V.", 2 ~{SHDN} (in) "Shutdown Input. A logic low on the S\H\D\N\ pin puts the part in shutdown mode. A logic high enables the part. To continuously enable the part connect S\H\D\N\ to VIN. When the part is in shutdown, VOUT will be connected to (See Datasheet)", 3 FB (in) "The voltage on this pin is compared to the internal reference voltage (1.235V) by the error amplifier to keep the output in regulation. An external resistor divider is required between VOUT and FB to adjust the output (See Datasheet)", 4 GND (power) "System Ground.", 5 C- "Flying Capacitor Negative Input.", 6 VIN (power) "Input Voltage, 1.8V to 4.4V. VIN should be bypassed with a >=2uF low ESR capacitor as close to the pin as possible for best performance. A minimum capacitance value of 0.1uF is required.", 7 C+ "Flying Capacitor Positive Input.", 8 CPO (power) "Unregulated Charge Pump Output Voltage. Approximately 1.95(VIN) at low loads. Bypass with a >=2uF low ESR capacitor. If a minimum VOUT enable time is required, the CPO capacitor should be 2xthe VOUT capacitor."